# Altium schematic symbol library TUSB320LIRWBR.SchLib: 2 symbols
Pins are listed as number, name and electrical type; pins without a type are passive.

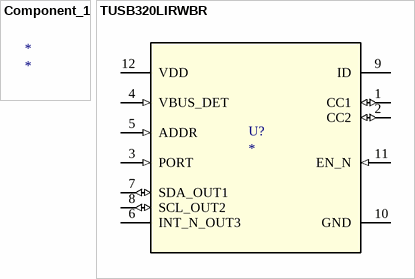
[diagram p0: symbols Component_1 to TUSB320LIRWBR]

## Component_1
designator *

## TUSB320LIRWBR
designator U?
Imported; PartNumber: TUSB320LIRWBR; Manufacturer: Texas Instruments; CompType: IC; PIN_COUNT: 12; Application_BuildNumber: *; PackageReference: RWB0012A; MountType: SMT; RoHS: Y; RefDes: RefDes; TYPE: TYPE; Value: Value
footprint RWB0012A
pins: 1 CC1 (io), 2 CC2 (io), 3 PORT (in), 4 VBUS_DET (in), 5 ADDR (in), 6 INT_N_OUT3 (oc), 7 SDA_OUT1 (io), 8 SCL_OUT2 (io), 9 ID (oc), 10 GND (power), 11 EN_N (in), 12 VDD (power)